# Altium footprint library PcbLib1.PcbLib: 1 footprints
Each footprint in its own frame and in the unit in brackets; x right, y up, seen from the top. Pads: shape width x height; smd on the part's side, far side on the other; paste and mask are expansions set on the pad; w line width, h text height; cw(c..) or ccw(c..) is an arc to the next point about the centre after c.
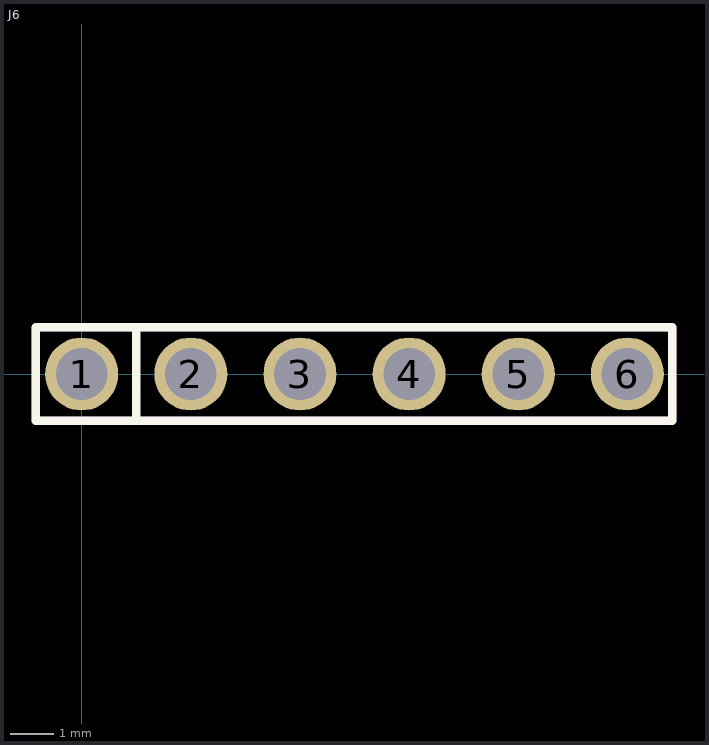
[diagram p0: the footprint, top view; thin cyan lines are the x and y axes]

## J6 [mm]
pads (6):
  round 1.7 hole 1.2: 1(0,0) 2(2.54,0) 3(5.08,0) 4(7.62,0) 5(10.16,0) 6(12.7,0)
Top Layer:
  lines w0.2: 10.16,0.125 10.277,0.008 ; 12.727,-0.042 12.727,0.015
Top Overlay:
  lines w0.2: 1.27,-1.016 1.27,1.016 ; -1.067,-1.092 -1.067,1.092 13.741,1.092 13.741,-1.092 -1.067,-1.092
Mechanical 13:
  lines w0.2: -1.067,-1.092 -1.067,1.092 13.741,1.092 13.741,-1.092 -1.067,-1.092
Mechanical 15:
  lines w0.2: -1.067,-1.092 13.741,-1.092 13.741,1.092 -1.067,1.092 -1.067,-1.092